# Altium schematic symbol library WF121.SchLib: 1 symbol
Pins are listed as number, name and electrical type; pins without a type are passive.

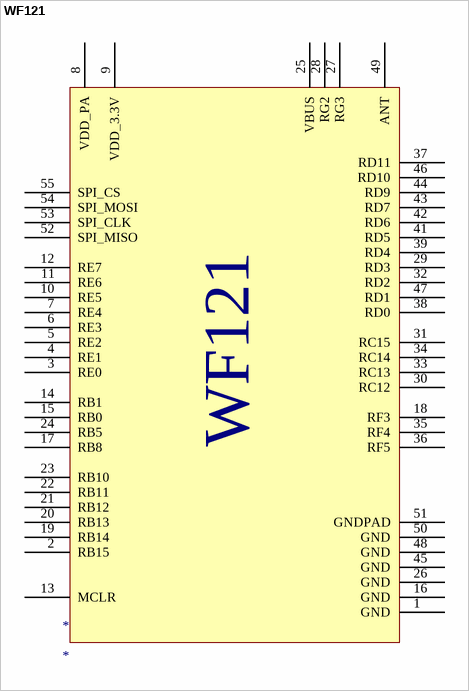
[diagram p0: symbol WF121]

## WF121
designator *
WF121 WIFI Module.; ComponentLink1Description: Datasheet; ComponentLink1URL: https://www.silabs.com/documents/public/data-sheets/WF121-DataSheet.pdf
footprint WF121
pins: 1 GND, 2 RB15, 3 RE0, 4 RE1, 5 RE2, 6 RE3, 7 RE4, 8 VDD_PA, 9 VDD_3.3V, 10 RE5, 11 RE6, 12 RE7, 13 MCLR, 14 RB1, 15 RB0, 16 GND, 17 RB8, 18 RF3, 19 RB14, 20 RB13, 21 RB12, 22 RB11, 23 RB10, 24 RB5, 25 VBUS, 26 GND, 27 RG3, 28 RG2, 29 RD3, 30 RC12, 31 RC15, 32 RD2, 33 RC13, 34 RC14, 35 RF4, 36 RF5, 37 RD11, 38 RD0, 39 RD4, 41 RD5, 42 RD6, 43 RD7, 44 RD9, 45 GND, 46 RD10, 47 RD1, 48 GND, 49 ANT, 50 GND, 51 GNDPAD "Thermal Ground Pad", 52 SPI_MISO, 53 SPI_CLK, 54 SPI_MOSI, 55 SPI_CS